# EAGLE library part RASPBERRY_ZERO_W (library SpatiumB)
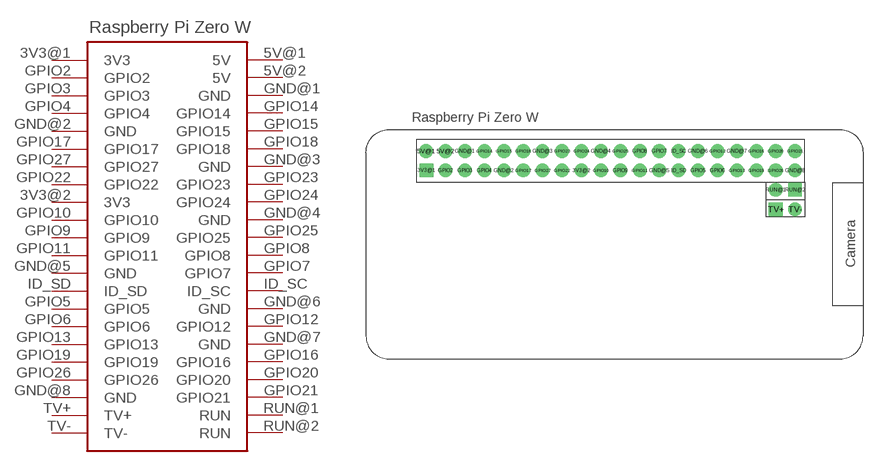
[diagram p0: symbol with the pads of RASPBERRY_ZERO_W; footprint RASPBERRY_ZERO_W]

Designator prefix RPIZEROW

## RASPBERRY_ZERO_W  [RASPBERRY_ZERO_W]
3V3@1  3V3
3V3@2  3V3
5V@1  5V
5V@2  5V
GND@1  GND
GND@2  GND
GND@3  GND
GND@4  GND
GND@5  GND
GND@6  GND
GND@7  GND
GND@8  GND
GPIO2  GPIO2
GPIO3  GPIO3
GPIO4  GPIO4
GPIO5  GPIO5
GPIO6  GPIO6
GPIO7  GPIO7
GPIO8  GPIO8
GPIO9  GPIO9
GPIO10  GPIO10
GPIO11  GPIO11
GPIO12  GPIO12
GPIO13  GPIO13
GPIO14  GPIO14
GPIO15  GPIO15
GPIO16  GPIO16
GPIO17  GPIO17
GPIO18  GPIO18
GPIO19  GPIO19
GPIO20  GPIO20
GPIO21  GPIO21
GPIO22  GPIO22
GPIO23  GPIO23
GPIO24  GPIO24
GPIO25  GPIO25
GPIO26  GPIO26
GPIO27  GPIO27
ID_SC  ID_SC
ID_SD  ID_SD
RUN@1  RUN
RUN@2  RUN
TV+  TV+
TV-  TV-

## Footprint RASPBERRY_ZERO_W (pad centres in mm)
drill 0.9 pad 1.778 square: 3V3@1 -24.079,9.685; RUN@2 24.13,7.128; TV+ 21.59,4.588
drill 0.9 pad 1.778: 3V3@2 -3.81,9.66; 5V@1 -24.13,12.2; 5V@2 -21.59,12.2; GND@1 -19.05,12.2; GND@2 -13.97,9.66; GND@3 -8.89,12.2; GND@4 -1.27,12.2; GND@5 6.35,9.66; GND@6 11.43,12.2; GND@7 16.51,12.2; GND@8 24.13,9.66; GPIO2 -21.59,9.66; GPIO3 -19.05,9.66; GPIO4 -16.51,9.66; GPIO5 11.43,9.66; GPIO6 13.97,9.66; GPIO7 6.35,12.2; GPIO8 3.81,12.2; GPIO9 1.27,9.66; GPIO10 -1.27,9.66; GPIO11 3.81,9.66; GPIO12 13.97,12.2; GPIO13 16.51,9.66; GPIO14 -16.51,12.2; GPIO15 -13.97,12.2; GPIO16 19.05,12.2; GPIO17 -11.43,9.66; GPIO18 -11.43,12.2; GPIO19 19.05,9.66; GPIO20 21.59,12.2; GPIO21 24.13,12.2; GPIO22 -6.35,9.66; GPIO23 -6.35,12.2; GPIO24 -3.81,12.2; GPIO25 1.27,12.2; GPIO26 21.59,9.66; GPIO27 -8.89,9.66; ID_SC 8.89,12.2; ID_SD 8.89,9.66; RUN@1 21.59,7.128; TV- 24.13,4.588